# Altium integrated library Integrated_Library.IntLib: 1 symbol
Pins are listed as number, name and electrical type; pins without a type are passive.

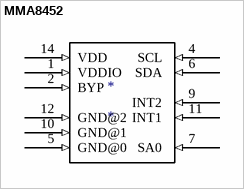
[diagram p0: symbol MMA8452]

## MMA8452
designator *
pins: 1 VDDIO  (in), 2 BYP (in), 4 SCL  (in), 5 GND@0  (in), 6 SDA  (in), 7 SA0  (in), 9 INT2  (in), 10 GND@1 (in), 11 INT1  (in), 12 GND@2 (in), 14 VDD  (in)